# Altium footprint library STM32.PcbLib: 68 footprints (part 4 of 5)
Each footprint in its own frame and in the unit in brackets; x right, y up, seen from the top. Pads: shape width x height; smd on the part's side, far side on the other; paste and mask are expansions set on the pad; w line width, h text height; cw(c..) or ccw(c..) is an arc to the next point about the centre after c.
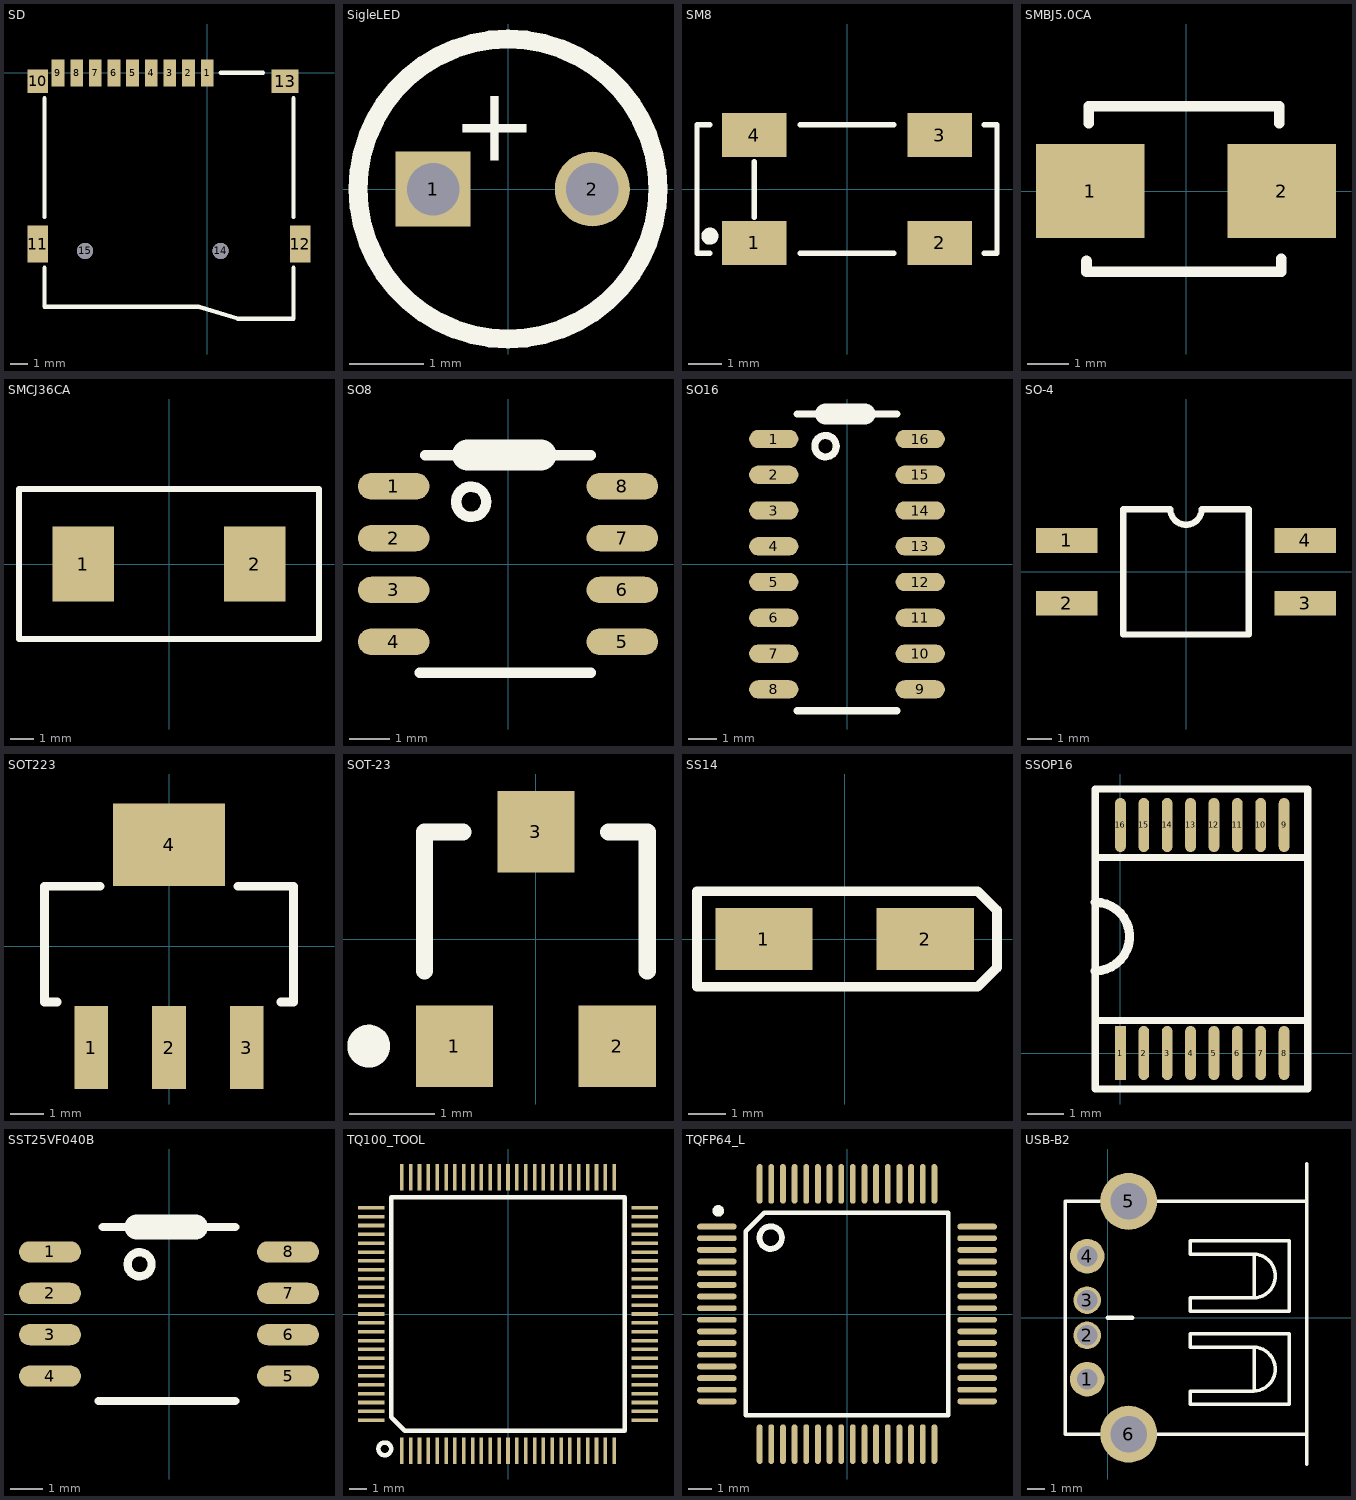
[diagram p3: the footprints below, top view; thin cyan lines are the x and y axes]

## SD [mm]
pads (15):
  rect 0.75x1.6 smd: 1(0,0) 2(-1.1,0) 3(-2.2,0) 4(-3.3,0) 5(-4.4,0) 6(-5.5,0) 7(-6.6,0) 8(-7.7,0) 9(-8.8,0)
  rect 1.2x1.4 smd: 10(-10,-0.5)
  rect 1.2x2.2 smd: 11(-10,-10.1) 12(5.5,-10.1)
  rect 1.6x1.4 smd: 13(4.6,-0.5)
  round 0.95 hole 0.95 unplated: 14(0.8,-10.5) 15(-7.2,-10.5)
Top Overlay:
  lines w0.254: -9.6,-11.5 -9.6,-13.8 -0.5,-13.8 1.8,-14.5 5.1,-14.5 5.1,-11.5 ; -9.6,-8.5 -9.6,-1.5 ; 0.8,0 3.3,0 ; 5.1,-8.5 5.1,-1.5

## SigleLED [mil] "zhichaLED"
height 40
pads (2):
  rect 40x40 hole 28: 1(-40,0)
  round 40 hole 28: 2(45,0)
Top Overlay:
  circle w10: c0,0 r80
  text "+" at -30,15 h40

## SM8 [mm]
pads (4):
  rect 1.9x1.3 smd: 1(-2.75,-1.6) 2(2.75,-1.6) 3(2.75,1.6) 4(-2.75,1.6)
Top Overlay:
  circle w0.254: c-4.064,-1.397 r0.127
  lines w0.152: -4.064,-1.905 -4.445,-1.905 -4.445,1.905 -4.064,1.905 ; -2.75,-0.838 -2.75,0.813 ; -1.397,-1.905 1.397,-1.905 ; -1.397,1.905 1.397,1.905 ; 4.064,-1.905 4.445,-1.905 4.445,-1.651 4.445,1.651 4.445,1.905 4.064,1.905

## SMBJ5.0CA [mm]
pads (2):
  rect 2.6x2.25 smd: 1(-2.3,0) 2(2.3,0)
Top Overlay:
  lines w0.254: -2.388,-1.676 -2.388,-1.93 2.286,-1.93 2.286,-1.626 ; -2.337,1.626 -2.337,2.032 2.235,2.032 2.235,1.626

## SMCJ36CA [mm]
pads (2):
  rect 2.6x3.15 smd: 1(-3.6,0) 2(3.6,0)
Top Overlay:
  lines w0.254: -6.299,-3.15 6.299,-3.15 6.299,3.15 -6.299,3.15 -6.299,-3.15

## SO8 [mm] "SOIC, 8-Leads, Body 4.9x3.9mm, Pitch 1.27mm, IPC Medium Density"
height 1.75
pads (8):
  oval 1.75x0.65 smd: 1(-2.8,1.905) 2(-2.8,0.635) 3(-2.8,-0.635) 4(-2.8,-1.905) 5(2.8,-1.905) 6(2.8,-0.635) 7(2.8,0.635) 8(2.8,1.905)
Top Overlay:
  circle w0.254: c-0.902,1.524 r0.368
  lines w0.254: -2.159,-2.667 2.032,-2.667 ; -2.032,2.667 2.032,2.667
  lines w0.762: -0.991,2.667 0.813,2.667

## SO16 [mm] "SOIC, 16-Leads, Body 9.9x3.9mm, Pitch 1.27mm, IPC Medium Density"
height 1.75
pads (16):
  oval 1.75x0.65 smd: 1(-2.6,4.445) 2(-2.6,3.175) 3(-2.6,1.905) 4(-2.6,0.635) 5(-2.6,-0.635) 6(-2.6,-1.905) 7(-2.6,-3.175) 8(-2.6,-4.445) 9(2.6,-4.445) 10(2.6,-3.175) 11(2.6,-1.905) 12(2.6,-0.635) 13(2.6,0.635) 14(2.6,1.905) 15(2.6,3.175) 16(2.6,4.445)
Top Overlay:
  circle w0.254: c-0.762,4.191 r0.381
  lines w0.254: -1.778,-5.207 1.778,-5.207 ; -1.778,5.334 1.778,5.334
  lines w0.762: -0.762,5.334 0.635,5.334

## SO-4 [mm]
pads (4):
  rect 2.5x1 smd: 1(-4.826,1.27) 2(-4.826,-1.27) 3(4.826,-1.27) 4(4.826,1.27)
Top Overlay:
  lines w0.254: -2.54,-2.54 -2.54,2.54 -0.635,2.54 ccw(c0,2.54) 0.635,2.54 2.54,2.54 2.54,-2.54 -2.54,-2.54

## SOT223 [mm] "SOT-223/SC-73; 4 Leads; Body 6.7 x 7.3 mm, inc. leads (LxW max)"
height 1.8
pads (4):
  rect 1x2.45 smd: 1(-2.3,-3) 2(0,-3) 3(2.3,-3)
  rect 3.3x2.45 smd: 4(0,3)
Top Overlay:
  lines w0.254: -3.302,-1.651 -3.683,-1.651 -3.683,1.778 -2.032,1.778 ; 2.032,1.778 3.683,1.778 3.683,-1.651 3.302,-1.651

## SOT-23 [mm] "SOT-23; 3 Leads; Body 3.0 x 2.6 mm, inc. leads (LxW max)"
height 1.1
pads (3):
  rect 0.9x0.95 smd: 1(-0.95,-1.25) 2(0.95,-1.25) 3(0,1.25)
Top Overlay:
  circle w0.25: c-1.95,-1.25 r0.125
  lines w0.2: -1.3,-0.375 -1.3,1.25 -0.85,1.25 ; 0.85,1.25 1.3,1.25 1.3,-0.375

## SS14 [mm]
pads (2):
  rect 2.6x1.65 smd: 1(-2.15,0) 2(2.15,0)
Top Overlay:
  lines w0.254: -3.937,-1.27 -3.937,-0.635 -3.937,0.635 -3.937,1.27 3.556,1.27 4.064,0.762 4.064,-0.762 3.556,-1.27 -3.937,-1.27

## SSOP16 [mm]
pads (16):
  rect 0.3x1.5 smd: 1(0,0)
  oval 0.3x1.5 smd: 2(0.65,0) 3(1.3,0) 4(1.95,0) 5(2.6,0) 6(3.25,0) 7(3.9,0) 8(4.55,0) 9(4.55,6.338) 10(3.9,6.338) 11(3.25,6.338) 12(2.6,6.338) 13(1.95,6.338) 14(1.3,6.338) 15(0.65,6.338) 16(0,6.338)
Top Overlay:
  lines w0.2: -0.7,6.2 -0.7,0.9 ; 5.207,0.9 -0.7,0.9 ; 5.207,5.438 -0.7,5.438 -0.7,7.338 5.207,7.338 5.207,5.565 ; 5.207,6.327 5.207,3.81 5.207,-1 -0.7,-1 -0.7,0.9
  lines w0.254: -0.7,2.283 ccw(c-0.7,3.237) -0.7,4.191

## SST25VF040B [mm] "SOIC, 8-Leads, Body 4.9x3.9mm, Pitch 1.27mm, IPC Medium Density"
height 1.75
pads (8):
  oval 1.9x0.65 smd: 1(-3.65,1.905) 2(-3.65,0.635) 3(-3.65,-0.635) 4(-3.65,-1.905) 5(3.65,-1.905) 6(3.65,-0.635) 7(3.65,0.635) 8(3.65,1.905)
Top Overlay:
  circle w0.254: c-0.902,1.524 r0.368
  lines w0.254: -2.159,-2.667 2.032,-2.667 ; -2.032,2.667 2.032,2.667
  lines w0.762: -0.991,2.667 0.813,2.667

## TQ100_TOOL [mm]
pads (100):
  rect 0.2x1.5 smd: 1(-6,-7.725) 2(-5.5,-7.725) 3(-5,-7.725) 4(-4.5,-7.725) 5(-4,-7.725) 6(-3.5,-7.725) 7(-3,-7.725) 8(-2.5,-7.725) 9(-2,-7.725) 10(-1.5,-7.725) 11(-1,-7.725) 12(-0.5,-7.725) 13(0,-7.725) 14(0.5,-7.725) 15(1,-7.725) 16(1.5,-7.725) 17(2,-7.725) 18(2.5,-7.725) 19(3,-7.725) 20(3.5,-7.725) 21(4,-7.725) 22(4.5,-7.725) 23(5,-7.725) 24(5.5,-7.725) 25(6,-7.725) 51(6,7.725) 52(5.5,7.725) 53(5,7.725) 54(4.5,7.725) 55(4,7.725) 56(3.5,7.725) 57(3,7.725) 58(2.5,7.725) 59(2,7.725) 60(1.5,7.725) 61(1,7.725) 62(0.5,7.725) 63(0,7.725) 64(-0.5,7.725) 65(-1,7.725) 66(-1.5,7.725) 67(-2,7.725) 68(-2.5,7.725) 69(-3,7.725) 70(-3.5,7.725) 71(-4,7.725) 72(-4.5,7.725) 73(-5,7.725) 74(-5.5,7.725) 75(-6,7.725)
  rect 1.5x0.2 smd: 26(7.725,-6) 27(7.725,-5.5) 28(7.725,-5) 29(7.725,-4.5) 30(7.725,-4) 31(7.725,-3.5) 32(7.725,-3) 33(7.725,-2.5) 34(7.725,-2) 35(7.725,-1.5) 36(7.725,-1) 37(7.725,-0.5) 38(7.725,0) 39(7.725,0.5) 40(7.725,1) 41(7.725,1.5) 42(7.725,2) 43(7.725,2.5) 44(7.725,3) 45(7.725,3.5) 46(7.725,4) 47(7.725,4.5) 48(7.725,5) 49(7.725,5.5) 50(7.725,6) 76(-7.725,6) 77(-7.725,5.5) 78(-7.725,5) 79(-7.725,4.5) 80(-7.725,4) 81(-7.725,3.5) 82(-7.725,3) 83(-7.725,2.5) 84(-7.725,2) 85(-7.725,1.5) 86(-7.725,1) 87(-7.725,0.5) 88(-7.725,0) 89(-7.725,-0.5) 90(-7.725,-1) 91(-7.725,-1.5) 92(-7.725,-2) 93(-7.725,-2.5) 94(-7.725,-3) 95(-7.725,-3.5) 96(-7.725,-4) 97(-7.725,-4.5) 98(-7.725,-5) 99(-7.725,-5.5) 100(-7.725,-6)
Top Overlay:
  circle w0.254: c-6.963,-7.62 r0.359
  lines w0.254: -6.604,-5.842 -6.096,-6.35 -5.842,-6.604 6.604,-6.604 6.604,6.604 -6.604,6.604 -6.604,-5.334 -6.604,-5.842

## TQFP64_L [mm] "Thin QFP, 64-Leads, Body 10x10mm, Pitch 0.5mm, IPC High Density"
height 1.2
pads (64):
  oval 1.7x0.25 smd: 1(-5.588,3.75) 2(-5.588,3.25) 3(-5.588,2.75) 4(-5.588,2.25) 5(-5.588,1.75) 6(-5.588,1.25) 7(-5.588,0.75) 8(-5.588,0.25) 9(-5.588,-0.25) 10(-5.588,-0.75) 11(-5.588,-1.25) 12(-5.588,-1.75) 13(-5.588,-2.25) 14(-5.588,-2.75) 15(-5.588,-3.25) 16(-5.588,-3.75) 33(5.588,-3.75) 34(5.588,-3.25) 35(5.588,-2.75) 36(5.588,-2.25) 37(5.588,-1.75) 38(5.588,-1.25) 39(5.588,-0.75) 40(5.588,-0.25) 41(5.588,0.25) 42(5.588,0.75) 43(5.588,1.25) 44(5.588,1.75) 45(5.588,2.25) 46(5.588,2.75) 47(5.588,3.25) 48(5.588,3.75)
  oval 0.25x1.7 smd: 17(-3.75,-5.588) 18(-3.25,-5.588) 19(-2.75,-5.588) 20(-2.25,-5.588) 21(-1.75,-5.588) 22(-1.25,-5.588) 23(-0.75,-5.588) 24(-0.25,-5.588) 25(0.25,-5.588) 26(0.75,-5.588) 27(1.25,-5.588) 28(1.75,-5.588) 29(2.25,-5.588) 30(2.75,-5.588) 31(3.25,-5.588) 32(3.75,-5.588) 49(3.75,5.588) 50(3.25,5.588) 51(2.75,5.588) 52(2.25,5.588) 53(1.75,5.588) 54(1.25,5.588) 55(0.75,5.588) 56(0.25,5.588) 57(-0.25,5.588) 58(-0.75,5.588) 59(-1.25,5.588) 60(-1.75,5.588) 61(-2.25,5.588) 62(-2.75,5.588) 63(-3.25,5.588) 64(-3.75,5.588)
Top Overlay:
  circle w0.25: c-5.525,4.425 r0.125
  circle w0.254: c-3.276,3.277 r0.482
  lines w0.2: -4.35,-4.35 -4.35,3.549 -3.549,4.35 4.35,4.35 4.35,-4.35 -4.35,-4.35

## USB-B2 [mm]
height 2.2
pads (6):
  round 2 hole 1.2: 1(-1.2,-3.556) 4(-1.2,3.556)
  round 1.6 hole 1.2: 2(-1.2,-1.016) 3(-1.2,1.016)
  round 3.3 hole 2.1: 5(1.2,6.731) 6(1.2,-6.731)
Top Overlay:
  lines w0.203: 8.452,-4.191 8.452,-1.753 ; 8.452,1.194 8.452,3.632 ; 11.5,-8.458 11.5,8.89 ; 11.5,-6.731 -2.47,-6.731 -2.47,6.731 11.5,6.731 ; 4.769,-5.004 4.769,-4.242 8.421,-4.242 ccw(c8.408,-2.972) 8.421,-1.702 4.769,-1.702 4.769,-0.94 10.484,-0.94 10.484,-5.004 4.769,-5.004 ; 4.769,0.381 4.769,1.143 8.421,1.143 ccw(c8.408,2.413) 8.421,3.683 4.769,3.683 4.769,4.445 10.484,4.445 10.484,0.381 4.769,0.381
  lines w0.254: 0,0 1.397,0